# EAGLE library part SSM2164 (library ic)
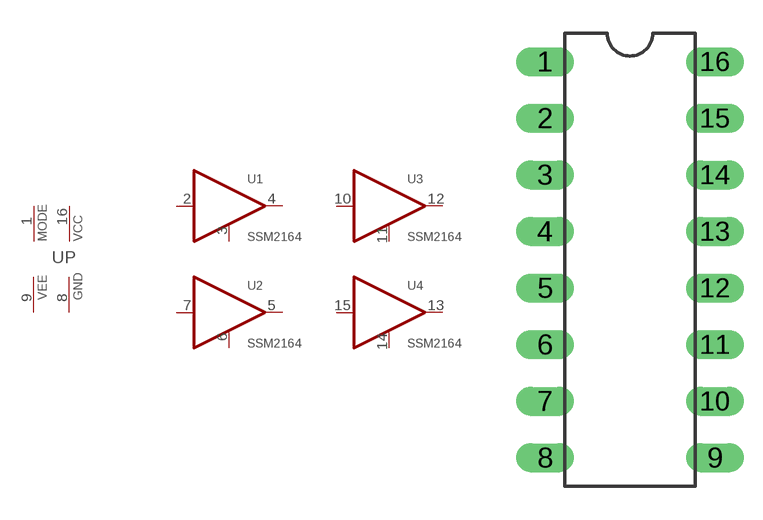
[diagram p48: symbol with the pads of DIL16; footprint DIL16]

Designator prefix -; gates P=PWR+0-MODE 1=VCA 2=VCA 3=VCA 4=VCA

## SSM2164  [DIL16]
1  P:MODE  in
2  1:IN  in
3  1:VC  pas
4  1:OUT  out
5  2:OUT  out
6  2:VC  pas
7  2:IN  in
8  P:GND  pwr
9  P:VEE  pwr
10  3:IN  in
11  3:VC  pas
12  3:OUT  out
13  4:OUT  out
14  4:VC  pas
15  4:IN  in
16  P:VCC  pwr

## Footprint DIL16 (pad centres in mm)
drill 0.8 pad 1.27 long: 1 -3.81,8.89; 2 -3.81,6.35; 3 -3.81,3.81; 4 -3.81,1.27; 5 -3.81,-1.27; 6 -3.81,-3.81; 7 -3.81,-6.35; 8 -3.81,-8.89; 9 3.81,-8.89; 10 3.81,-6.35; 11 3.81,-3.81; 12 3.81,-1.27; 13 3.81,1.27; 14 3.81,3.81; 15 3.81,6.35; 16 3.81,8.89